# Altium schematic symbol library SnapEDAsch.SchLib: 1 symbol
Pins are listed as number, name and electrical type; pins without a type are passive.

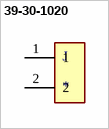
[diagram p0: symbol 39-30-1020]

## 39-30-1020
designator J
10 Position Receptacle Connector Through Hole, Right Angle; MF: Molex; Price: None; SnapEDA_Link: https://www.snapeda.com/parts/39-30-1020/Molex/view-part/4502588/?ref=snap; Availability: Unavailable; Value: *; MP: 39-30-1020; Package: None
footprint MOLEX_39-30-1020
pins: 1, 2